# Altium schematic symbol library ESE.SchLib: 2 symbols
Pins are listed as number, name and electrical type; pins without a type are passive.

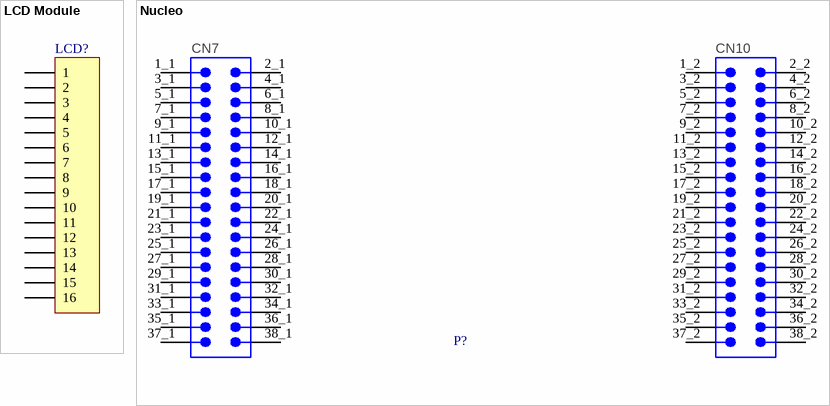
[diagram p0: symbols LCD Module to Nucleo]

## LCD Module
designator LCD?
Header, 16-Pin; LatestRevisionDate: 17-Jul-2002; LatestRevisionNote: Re-released for DXP Platform.; Publisher: Altium Limited
footprint LCD Module (16 Pin LCD Module w/ header pins, Female Header)
pins: 1, 2, 3, 4, 5, 6, 7, 8, 9, 10, 11, 12, 13, 14, 15, 16

## Nucleo
designator P?
STM32F303 Nucleo Development Board; Manufacturer: Samtec; PartNumber: HW-20-08-F-D-255-090; Pitch: 2.54 mm; DatasheetVersion: F-214; PackageVersion: Y, 8/1991; PackageReference: HW-20-08-X-D-255-090; PackageDescription: .100[2.54] High Temp Terminal Body (Board Stacking); Orientation: Vertical; RoHS: True; Temperature Range: -55 to 125 degC; Mounting Technology: Through-hole; ComponentLink1Description: Datasheet; ComponentLink1URL: http://www.samtec.com/documents/webfiles/pdf/HW_TH.PDF; ComponentLink2Description: Package Specification; ComponentLink2URL: http://www.samtec.com/documents/webfiles/cpdf/HW-XX-XX-XX-X-XXX-XXX-XX-XXX-MKT.pdf
footprint NUCLEO (Low Cost Board Spacer, 2x19 Pins, Vertical, 2.54mm Pitch, Male)
pins: 1_1 1, 1_2 1, 2_1 2, 2_2 2, 3_1 3, 3_2 3, 4_1 4, 4_2 4, 5_1 5, 5_2 5, 6_1 6, 6_2 6, 7_1 7, 7_2 7, 8_1 8, 8_2 8, 9_1 9, 9_2 9, 10_1 10, 10_2 10, 11_1 11, 11_2 11, 12_1 12, 12_2 12, 13_1 13, 13_2 13, 14_1 14, 14_2 14, 15_1 15, 15_2 15, 16_1 16, 16_2 16, 17_1 17, 17_2 17, 18_1 18, 18_2 18, 19_1 19, 19_2 19, 20_1 20, 20_2 20, 21_1 21, 21_2 21, 22_1 22, 22_2 22, 23_1 23, 23_2 23, 24_1 24, 24_2 24, 25_1 25, 25_2 25, 26_1 26, 26_2 26, 27_1 27, 27_2 27, 28_1 28, 28_2 28, 29_1 29, 29_2 29, 30_1 30, 30_2 30, 31_1 31, 31_2 31, 32_1 32, 32_2 32, 33_1 33, 33_2 33, 34_1 34, 34_2 34, 35_1 35, 35_2 35, 36_1 36, 36_2 36, 37_1 37, 37_2 37, 38_1 38, 38_2 38
text: CN7; CN10